# EAGLE library part FDS6892A (library OPLLib)
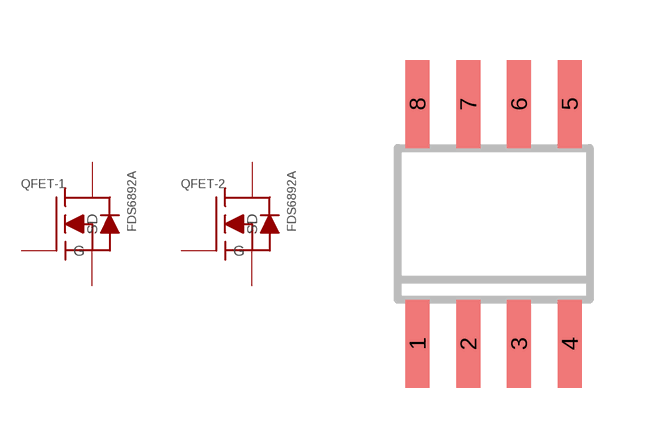
[diagram p4: symbol with the pads of SOIC8; footprint SOIC8]

Designator prefix Q; gates FET-1=N-MOSFET FET-2=N-MOSFET

## FDS6892A (MPN: FDS6892A; OC_FARNELL: 1653651)  [SOIC8]
1  FET-2:S
2  FET-2:G  in
3  FET-1:S
4  FET-1:G  in
5  FET-1:D
6  FET-1:D
7  FET-2:D
8  FET-2:D

## Footprint SOIC8 (pad centres in mm)
SMALL OUTLINE INTEGRATED CIRCUIT
smd 0.6 x 2.2: 1 -1.905,-3; 2 -0.635,-3; 3 0.635,-3; 4 1.905,-3; 5 1.905,3; 6 0.635,3; 7 -0.635,3; 8 -1.905,3